# Altium footprint library bt_diode.PCBLIB: 25 footprints (part 2 of 2)
Each footprint in its own frame and in the unit in brackets; x right, y up, seen from the top. Pads: shape width x height; smd on the part's side, far side on the other; paste and mask are expansions set on the pad; w line width, h text height; cw(c..) or ccw(c..) is an arc to the next point about the centre after c.
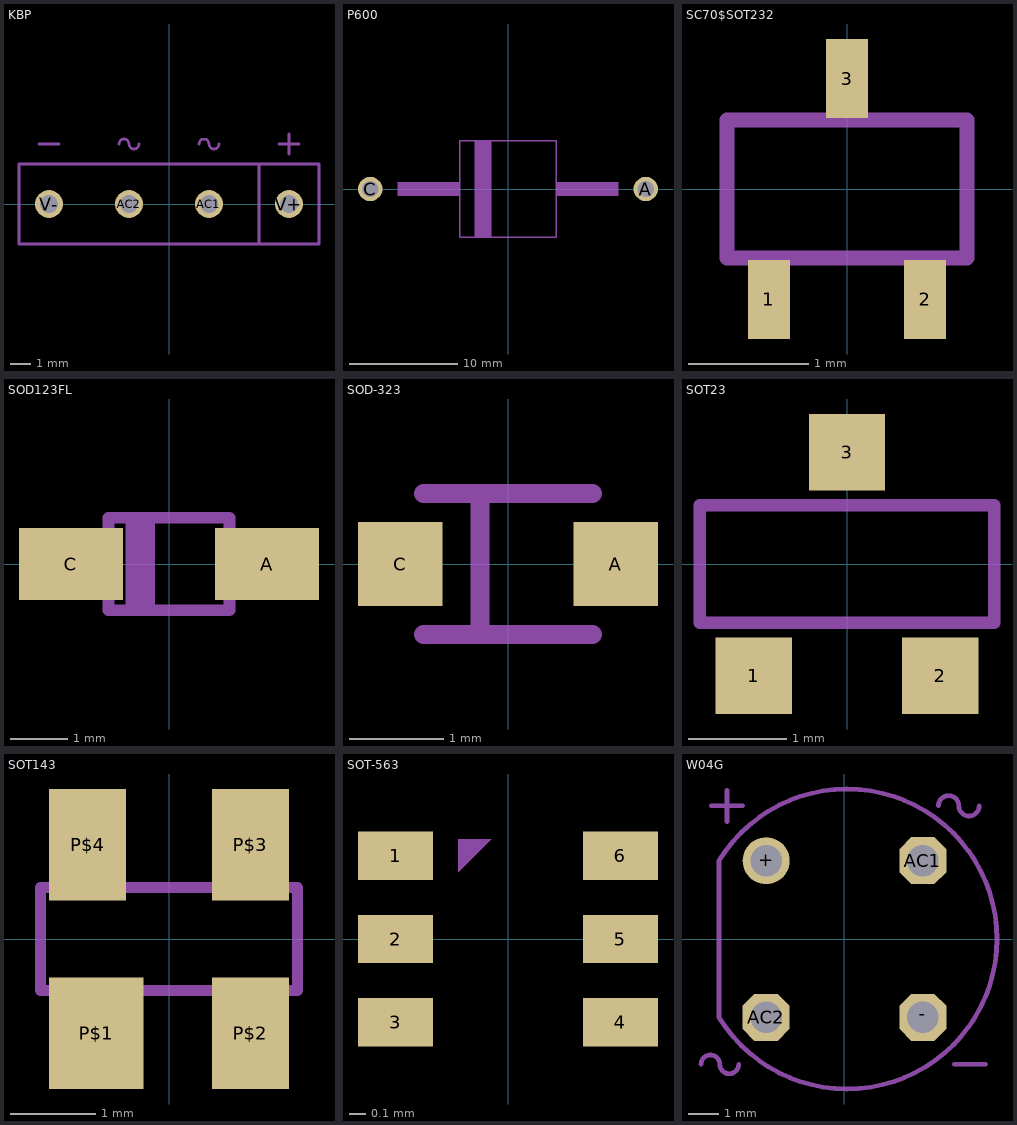
[diagram p1: the footprints below, top view; thin cyan lines are the x and y axes]

## KBP [mm]
pads (4):
  round 1.408 hole 0.9: AC1(2,0) AC2(-2,0) V+(6,0) V-(-6,0)
tPlace:
  lines w0.127: -6.5,3 -5.5,3 ; -2.5,3 cw(c-2.25,3) -2,3 ccw(c-1.75,3) -1.5,3 ; 1.5,3 cw(c1.75,3) 2,3 ccw(c2.25,3) 2.5,3 ; 5.5,3 6.5,3 ; 6,2.5 6,3.5 ; 4.5,-2 7.5,-2 7.5,2 4.5,2 ; 4.5,-2 -7.5,-2 -7.5,2 4.5,2 ; 4.5,-2 4.5,2

## P600 [mil]
pads (2):
  round 88.59 hole 59.06: A(500,0) C(-500,0)
tPlace:
  region: -60,-175 -120,-175 -120,175 -60,175
  region: -400,-25 -400,25 -175,25 -175,-25
  region: 175,-25 175,25 400,25 400,-25
  lines w5: -175,-175 -175,175 175,175 175,-175 -175,-175

## SC70$SOT232 [mm]
pads (3):
  rect 0.35x0.66 smd: 1(-0.65,-0.92) 2(0.65,-0.92) 3(0,0.92)
tDocu:
  lines w0.127: -1,-0.575 1,-0.575 ; -1,0.575 1,0.575
tPlace:
  lines w0.127: -1,-0.575 -1,0.575 ; 1,-0.575 1,0.575

## SOD123FL [mil]
pads (2):
  rect 70.87x49.21 smd: A(66.93,0) C(-66.93,0)
tDocu:
  region: -59.06,-21.65 -59.06,21.65 -44.29,21.65 -44.29,-21.65
  region: 59.06,21.65 59.06,-21.65 44.29,-21.65 44.29,21.65
  lines w8: -41.34,-31.5 41.34,-31.5 41.34,31.5 -41.34,31.5 -41.34,-31.5
tPlace:
  region: -29.53,-30.51 -29.53,31.5 -9.84,31.5 -9.84,-30.51
  lines w8: -25.59,-31.5 25.59,-31.5 ; -25.59,31.5 25.59,31.5

## SOD-323 [mil]
pads (2):
  rect 35.43x35.43 smd: A(45.28,0) C(-45.28,0)
tPlace:
  lines w8: -35.43,-29.53 -11.81,-29.53 ; -35.43,29.53 -11.81,29.53 ; 35.43,-29.53 -11.81,-29.53 ; 35.43,29.53 -11.81,29.53 ; -11.81,-29.53 -11.81,29.53

## SOT23 [mil]
pads (3):
  rect 30.71x30.71 smd: 1(-37.4,-44.88) 2(37.4,-44.88) 3(0,44.88)
tPlace:
  lines w5: -59.06,-23.62 -59.06,23.62 59.06,23.62 59.06,-23.62 -59.06,-23.62

## SOT143 [mil]
pads (4):
  rect 43.31x51.18 smd: P$1(-33.46,-43.31)
  rect 35.43x51.18 smd: P$2(37.4,-43.31) P$3(37.4,43.31) P$4(-37.4,43.31)
tDocu:
  lines w5: -59.06,-23.62 59.06,-23.62 ; -59.06,23.62 59.06,23.62
tPlace:
  lines w5: -59.06,-23.62 -59.06,23.62 ; 59.06,-23.62 59.06,23.62

## SOT-563 [mil]
pads (6):
  rect 17.72x11.42 smd: 1(-26.57,19.69) 2(-26.57,0) 3(-26.57,-19.69) 4(26.57,-19.69) 5(26.57,0) 6(26.57,19.69)
tPlace:
  region: -11.81,23.62 -11.81,15.75 -3.94,23.62

## W04G [mil]
pads (4):
  round 60 hole 40: +(-100,100)
  oct 60x60 / inner round 55.43 / far side oct 60x60 hole 40: -(100,-100) AC1(100,100) AC2(-100,-100)
tPlace:
  lines w6: -183,-160 cw(c-171,-160) -159,-160 ccw(c-147,-160) -135,-160 ; -170,170 -130,170 ; -150,150 -150,190 ; 120,170 cw(c133,170) 146,170 ccw(c159,170) 172,170 ; 140,-160 180,-160 ; -160,-100 ccw(c3.28,0) -160,100 -160,-100